# Altium schematic symbol library lcd I2C.SchLib: 1 symbol
Pins are listed as number, name and electrical type; pins without a type are passive.

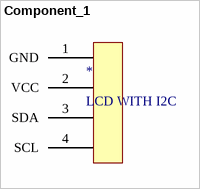
[diagram p0: symbol Component_1]

## Component_1
designator *, comment LCD WITH I2C
footprint HDR/Header/4
pins: 1 GND, 2 VCC, 3 SDA, 4 SCL